# EAGLE library part LTC6244 (library 1A-meinLib)
Dual CMOS OP AMP, Low Noise, R/R 50MHZ , SMD, MSOP8 , Linear Technology
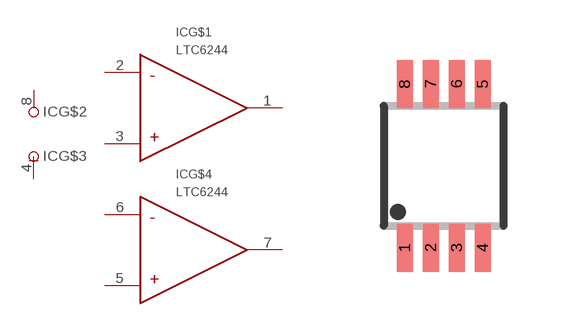
[diagram p161: symbol with the pads of MSOP8; footprint MSOP8]

Designator prefix IC; gates G$2=+UB G$3=-UB G$1=LTC6244 G$4=LTC6244

## LTC6244  [MSOP8]
1  G$1:VOUT  out
2  G$1:-IN  in
3  G$1:+IN  in
4  G$3:-UB  pwr
5  G$4:+IN  in
6  G$4:-IN  in
7  G$4:VOUT  out
8  G$2:+UB  pwr

## Footprint MSOP8 (pad centres in mm)
MSOP8
smd 0.4 x 1.2: 1 -0.975,-2.05; 2 -0.325,-2.05; 3 0.325,-2.05; 4 0.975,-2.05; 5 0.975,2.05; 6 0.325,2.05; 7 -0.325,2.05; 8 -0.975,2.05